# Altium schematic symbol library 218-2LPSTRF.SchLib: 1 symbol
Pins are listed as number, name and electrical type; pins without a type are passive.

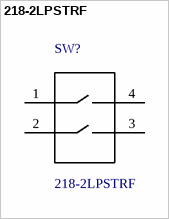
[diagram p0: symbol 218-2LPSTRF]

## 218-2LPSTRF
designator SW?
/ Switch DIP OFF ON SPST 2 Recessed Slide 0.025A 24VDC Gull Wing SMD T/R /; MF: CTS Electrocomponents; Package: None; MP: 218-2LPSTRF; Availability: Unavailable; Price: None; SnapEDA_Link: https://www.snapeda.com/parts/218-2LPSTRF/CTS%20Electrocomponents/view-part/?ref=snap; Value: *
footprint *SW_218-2LPSTRF
pins: 1, 2, 3, 4